# EAGLE library part 74LVC4245A (library Gekkio-nxp)
Octal dual supply translating transceiver; 3-state
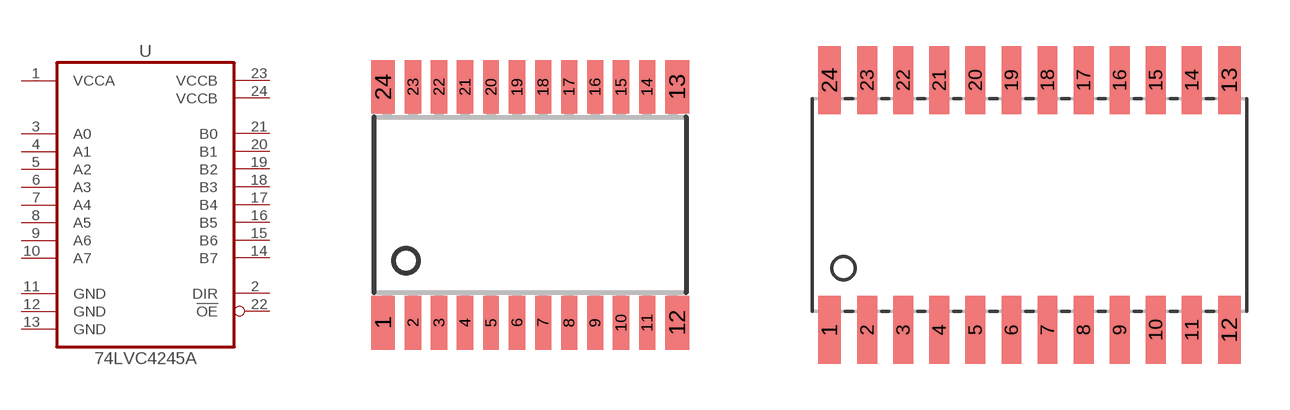
[diagram p1: symbol with the pads of SOT355-1; footprints SOT355-1, SOT137-1]

Designator prefix U

## 74LVC4245APW  [SOT355-1]
1  VCCA  pwr
2  DIR  in
3  A0  hiz
4  A1  hiz
5  A2  hiz
6  A3  hiz
7  A4  hiz
8  A5  hiz
9  A6  hiz
10  A7  hiz
11  GND  pwr
12  GND  pwr
13  GND  pwr
14  B7  hiz
15  B6  hiz
16  B5  hiz
17  B4  hiz
18  B3  hiz
19  B2  hiz
20  B1  hiz
21  B0  hiz
22  !OE  in
23  VCCB  pwr
24  VCCB  pwr

## 74LVC4245AD  [SOT137-1]
Pads as for SOT355-1

## 74LVC4245ADB  [SOT340-1]
Pads as for SOT355-1

## 74LVC4245ABQ  [SOT815-1]
1  VCCA  pwr
2  DIR  in
3  A0  hiz
4  A1  hiz
5  A2  hiz
6  A3  hiz
7  A4  hiz
8  A5  hiz
9  A6  hiz
10  A7  hiz
11  GND  pwr
12  GND  pwr
13  GND  pwr
14  B7  hiz
15  B6  hiz
16  B5  hiz
17  B4  hiz
18  B3  hiz
19  B2  hiz
20  B1  hiz
21  B0  hiz
22  !OE  in
23  VCCB  pwr
24  VCCB  pwr
25  GND  pwr

## Footprint SOT355-1 (pad centres in mm)
SOT355-1 (TSSOP24) plastic thin shrink small outline package 24 leads body width 4.4 mm Tested Source: NXP SOT355-1 Package Information, 8 February 2016
smd 0.6 x 1.35: 1 -3.675,-2.95; 12 3.675,-2.95; 13 3.675,2.95; 24 -3.675,2.95
smd 0.4 x 1.35: 2 -2.925,-2.95; 3 -2.275,-2.95; 4 -1.625,-2.95; 5 -0.975,-2.95; 6 -0.325,-2.95; 7 0.325,-2.95; 8 0.975,-2.95; 9 1.625,-2.95; 10 2.275,-2.95; 11 2.925,-2.95; 14 2.925,2.95; 15 2.275,2.95; 16 1.625,2.95; 17 0.975,2.95; 18 0.325,2.95; 19 -0.325,2.95; 20 -0.975,2.95; 21 -1.625,2.95; 22 -2.275,2.95; 23 -2.925,2.95

## Footprint SOT137-1 (pad centres in mm)
SOT137-1 (SO24) plastic small outline package 24 leads body width 7.5 mm Not tested! Source: NXP SOT137-1 Package Information, 8 February 2016
smd 0.8 x 2.4: 1 -7.035,-4.4; 12 7.035,-4.4; 13 7.035,4.4; 24 -7.035,4.4
smd 0.7 x 2.4: 2 -5.715,-4.4; 3 -4.445,-4.4; 4 -3.175,-4.4; 5 -1.905,-4.4; 6 -0.635,-4.4; 7 0.635,-4.4; 8 1.905,-4.4; 9 3.175,-4.4; 10 4.445,-4.4; 11 5.715,-4.4; 14 5.715,4.4; 15 4.445,4.4; 16 3.175,4.4; 17 1.905,4.4; 18 0.635,4.4; 19 -0.635,4.4; 20 -1.905,4.4; 21 -3.175,4.4; 22 -4.445,4.4; 23 -5.715,4.4

## Footprint SOT340-1 (pad centres in mm)
SOT340-1 (SSOP24) plastic shrink small outline package 24 leads body width 5.3 mm Not tested! Source: NXP SOT340-1 Package Information, 8 February 2016
smd 0.6 x 1.6: 1 -3.675,-3.5; 12 3.675,-3.5; 13 3.675,3.5; 24 -3.675,3.5
smd 0.4 x 1.6: 2 -2.925,-3.5; 3 -2.275,-3.5; 4 -1.625,-3.5; 5 -0.975,-3.5; 6 -0.325,-3.5; 7 0.325,-3.5; 8 0.975,-3.5; 9 1.625,-3.5; 10 2.275,-3.5; 11 2.925,-3.5; 14 2.925,3.5; 15 2.275,3.5; 16 1.625,3.5; 17 0.975,3.5; 18 0.325,3.5; 19 -0.325,3.5; 20 -0.975,3.5; 21 -1.625,3.5; 22 -2.275,3.5; 23 -2.925,3.5

## Footprint SOT815-1 (pad centres in mm)
SOT815-1 (DHVQFN24) plastic dual in-line compatible thermal enhanced very thin quad flat package no leads 24 terminals body 3.5 x 5.5 x 0.85 mm Not tested! Source: NXP SOT815-1 Package Information, 8 February 2016
smd 0.9 x 0.29: 1 -2.8,-0.75; 12 2.8,-0.75; 13 2.8,0.75; 24 -2.8,0.75
smd 0.29 x 0.9: 2 -2.25,-1.8; 3 -1.75,-1.8; 4 -1.25,-1.8; 5 -0.75,-1.8; 6 -0.25,-1.8; 7 0.25,-1.8; 8 0.75,-1.8; 9 1.25,-1.8; 10 1.75,-1.8; 11 2.25,-1.8; 14 2.25,1.8; 15 1.75,1.8; 16 1.25,1.8; 17 0.75,1.8; 18 0.25,1.8; 19 -0.25,1.8; 20 -0.75,1.8; 21 -1.25,1.8; 22 -1.75,1.8; 23 -2.25,1.8
smd 4 x 2: 25 0,0